# EAGLE library part MCP6292 (library Microchip)
1.0mA, 10MHz, Rail-to-Rail Op Amp
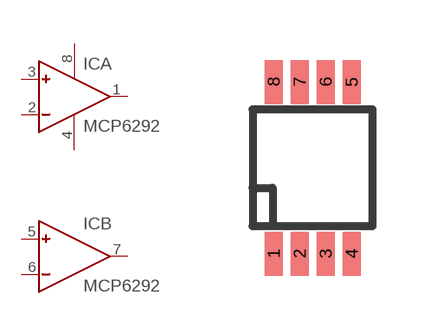
[diagram p25: symbol with the pads of MSOP8-MS; footprint MSOP8-MS]

Designator prefix IC; gates A=OPAMP-PWR B=OPAMP

## MCP6292-MS  [MSOP8-MS]
1  A:OUT  out
2  A:IN-  in
3  A:IN+  in
4  A:V-  pwr
5  B:IN+  in
6  B:IN-  in
7  B:OUT  out
8  A:V+  pwr

## Footprint MSOP8-MS (pad centres in mm)
8-Lead Plastic Micro Small Outline Package (MSOP), Microchip package MS
smd 0.45 x 1.1: 1 -0.975,-2.15; 2 -0.325,-2.15; 3 0.325,-2.15; 4 0.975,-2.15; 5 0.975,2.15; 6 0.325,2.15; 7 -0.325,2.15; 8 -0.975,2.15